# EAGLE library part ICV9 (library con-phoenix-508)
PHOENIX
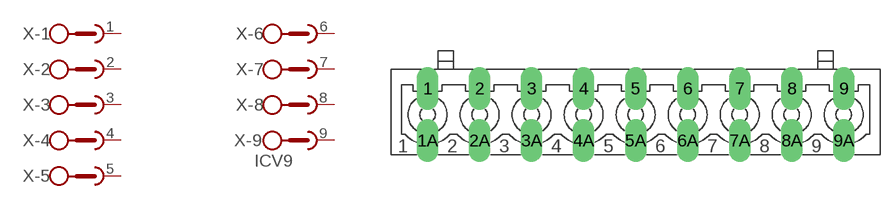
[diagram p45: symbol with the pads of ICV9; footprint ICV9]

Designator prefix X; gates -1=SKB -2=SKB -3=SKB -4=SKB -5=SKB -6=SKB -7=SKB -8=SKB -9=SKBV

## ICV9  [ICV9]
1  -1:1  pas
2  -2:1  pas
3  -3:1  pas
4  -4:1  pas
5  -5:1  pas
6  -6:1  pas
7  -7:1  pas
8  -8:1  pas
9  -9:1  pas

## Footprint ICV9 (pad centres in mm)
PHOENIX
drill 1.397 long: 1 -20.32,2.54; 1A -20.32,-2.54; 2 -15.24,2.54; 2A -15.24,-2.54; 3 -10.16,2.54; 3A -10.16,-2.54; 4 -5.08,2.54; 4A -5.08,-2.54; 5 0,2.54; 5A 0,-2.54; 6 5.08,2.54; 6A 5.08,-2.54; 7 10.16,2.54; 7A 10.16,-2.54; 8 15.24,2.54; 8A 15.24,-2.54; 9 20.32,2.54; 9A 20.32,-2.54